# EAGLE library part MCP42X1 (library sdf20)
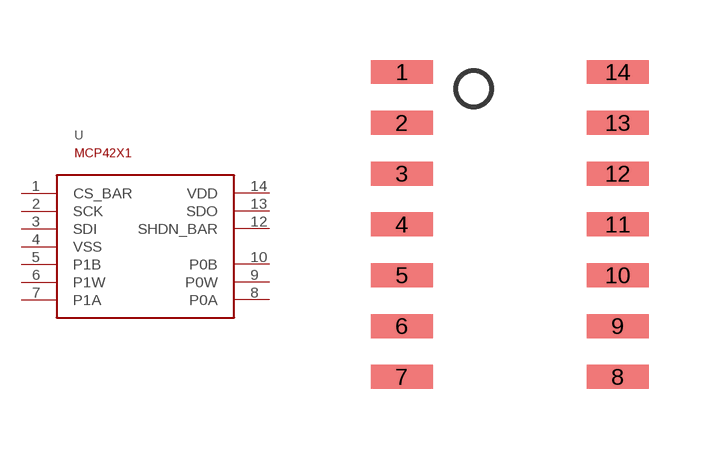
[diagram p2: symbol with the pads of 14-SOIC; footprint 14-SOIC]

Designator prefix -

## MCP42X1  [14-SOIC]
1  CS_BAR
2  SCK
3  SDI
4  VSS
5  P1B
6  P1W
7  P1A
8  P0A
9  P0W
10  P0B
12  SHDN_BAR
13  SDO
14  VDD

## Footprint 14-SOIC (pad centres in mm)
smd 1.55 x 0.6: 1 0,7.62; 2 0,6.35; 3 0,5.08; 4 0,3.81; 5 0,2.54; 6 0,1.27; 7 0,0; 8 5.4,0; 9 5.4,1.27; 10 5.4,2.54; 11 5.4,3.81; 12 5.4,5.08; 13 5.4,6.35; 14 5.4,7.62